# Altium footprint library CN_SCKT2X7.PcbLib: 1 footprints
Each footprint in its own frame and in the unit in brackets; x right, y up, seen from the top. Pads: shape width x height; smd on the part's side, far side on the other; paste and mask are expansions set on the pad; w line width, h text height; cw(c..) or ccw(c..) is an arc to the next point about the centre after c.
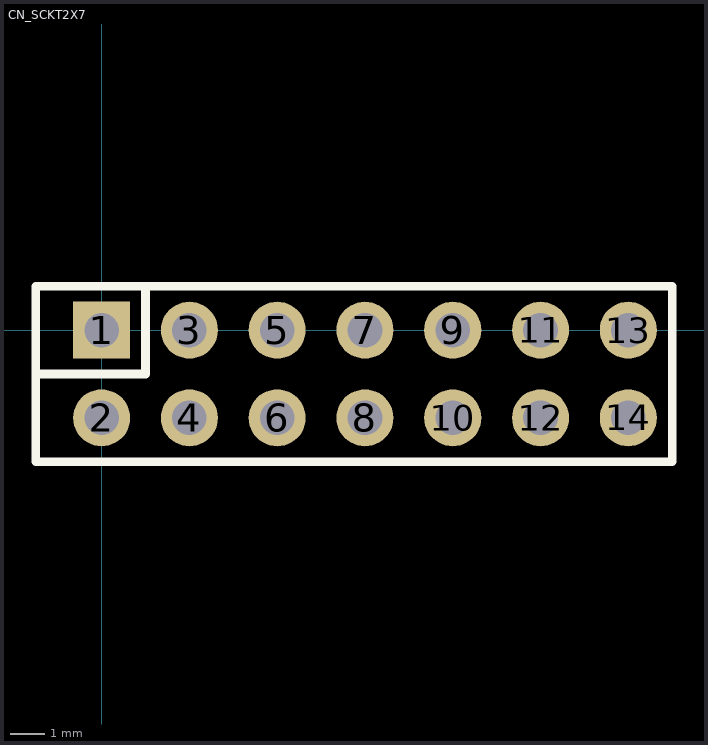
[diagram p0: the footprint, top view; thin cyan lines are the x and y axes]

## CN_SCKT2X7 [mm] "Samtec SSW-107-01-T-D"
height 23.3
pads (14):
  rect 1.65x1.65 hole 1: 1(0,0)
  round 1.65 hole 1: 2(0,-2.54) 3(2.54,0) 4(2.54,-2.54) 5(5.08,0) 6(5.08,-2.54) 7(7.62,0) 8(7.62,-2.54) 9(10.16,0) 10(10.16,-2.54) 11(12.7,0) 12(12.7,-2.54) 13(15.24,0) 14(15.24,-2.54)
Top Overlay:
  lines w0.254: -1.905,-1.27 1.27,-1.27 1.27,1.27 ; -1.905,-3.81 -1.905,1.27 16.51,1.27 16.51,-3.81 -1.905,-3.81
3D body: height 8.51, standoff -2.64, extent -1.524,-3.746 16.764,1.207